# Altium footprint library TO-247-2-H.PcbLib: 1 footprints
Each footprint in its own frame and in the unit in brackets; x right, y up, seen from the top. Pads: shape width x height; smd on the part's side, far side on the other; paste and mask are expansions set on the pad; w line width, h text height; cw(c..) or ccw(c..) is an arc to the next point about the centre after c.
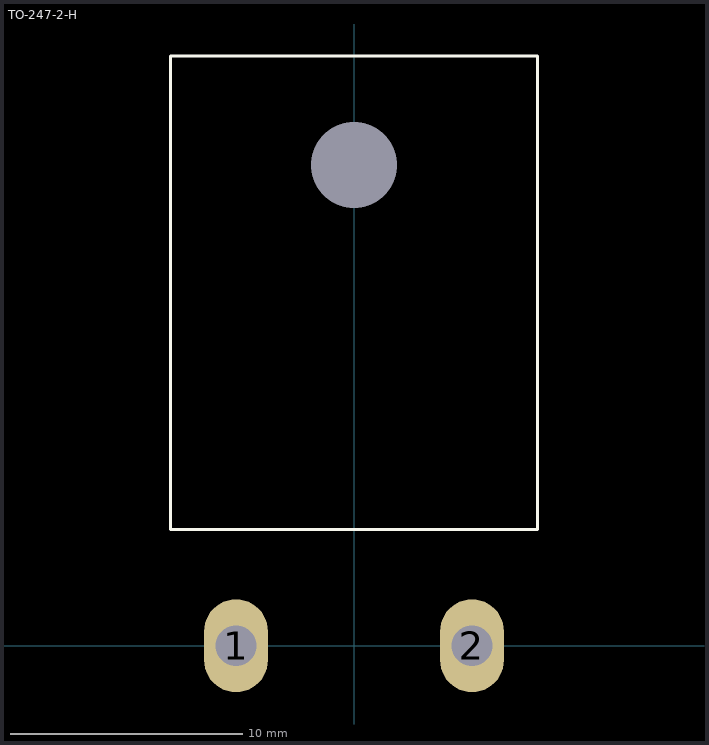
[diagram p0: the footprint, top view; thin cyan lines are the x and y axes]

## TO-247-2-H [mm] "TO-247 board mounted"
pads (3):
  round 0 hole 3.7: 0(0,20.7)
  oval 2.75x4 hole 1.75: 1(-5.08,0) 2(5.08,0)
Top Overlay:
  lines w0.127: -7.9,5 -7.9,25.4 7.9,25.4 7.9,5 -7.9,5
3D body "TO-247-2-H.SLDPRT": height 5, standoff -7.4, extent -7.75,-0.35 7.75,25.25